# EAGLE library part BTS50085 (library myLib)
IC SWITCH PWR HISIDE TO220-7
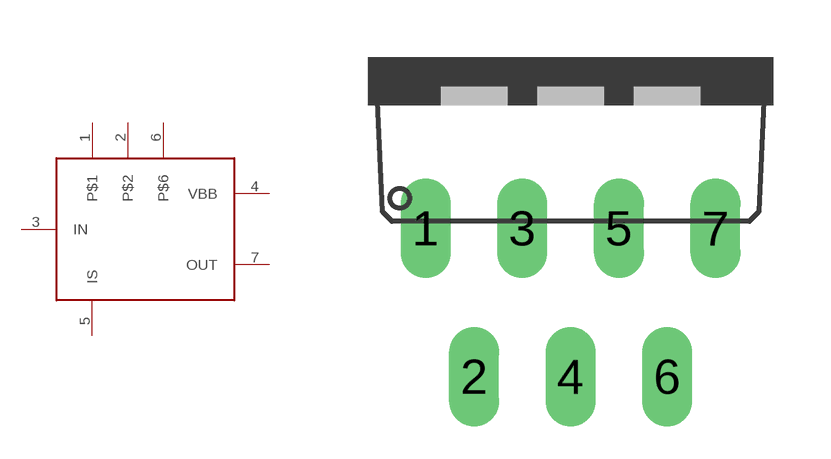
[diagram p22: symbol with the pads of TO220-7; footprint TO220-7]

Designator prefix -

## BTS50085  [TO220-7]
1  P$1
2  P$2
3  IN
4  VBB
5  IS
6  P$6
7  OUT

## Footprint TO220-7 (pad centres in mm)
drill 0.8 long: 1 -3.81,-4.5; 2 -2.54,-8.4; 3 -1.27,-4.5; 4 0,-8.4; 5 1.27,-4.5; 6 2.54,-8.4; 7 3.81,-4.5